# EAGLE library part 5.8ZSPT (library ELECTROMECH)
30V LATCHING Straight 100,000 Times DPDT 不带 150gf 100mA Plugin Push Switches ROHS
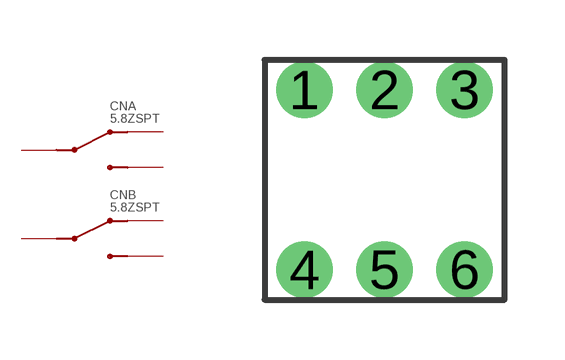
[diagram p6: symbol with the pads of 5.8ZSPT; footprint 5.8ZSPT]

Designator prefix CN; gates A=RELAY_CONTACT_SPDT B=RELAY_CONTACT_SPDT

## 5.8ZSPT (HEIGHT: 7.5; LCSC: C2681588; PRICE_PER: 0.082; VALUE: 5.8ZSPT)  [5.8ZSPT]
1  A:2
2  A:1
3  A:3
4  B:2
5  B:1
6  B:3

## Footprint 5.8ZSPT (pad centres in mm)
drill 0.9: 1 -2,2.25; 2 0,2.25; 3 2,2.25; 4 -2,-2.25; 5 0,-2.25; 6 2,-2.25